# EAGLE library part 1X6_SMDPAD (library Traficon)
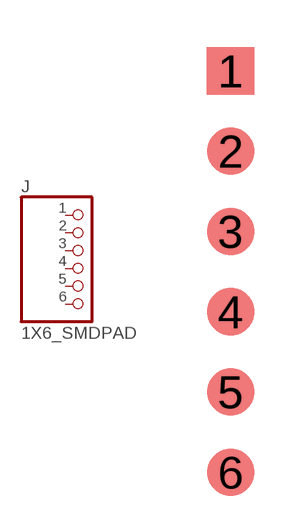
[diagram p207: symbol with the pads of 1X6_SMDPAD; footprint 1X6_SMDPAD]

Designator prefix J

## 1X6_SMDPAD  [1X6_SMDPAD]
1  1  pas
2  2  pas
3  3  pas
4  4  pas
5  5  pas
6  6  pas

## Footprint 1X6_SMDPAD (pad centres in mm)
smd 1.5 x 1.5: 1 0,7.62; 2 0,5.08; 3 0,2.54; 4 0,0; 5 0,-2.54; 6 0,-5.08